# Altium integrated library Microchip Microcontroller 16-Bit PIC24F.IntLib: 262 symbols (part 7 of 15)
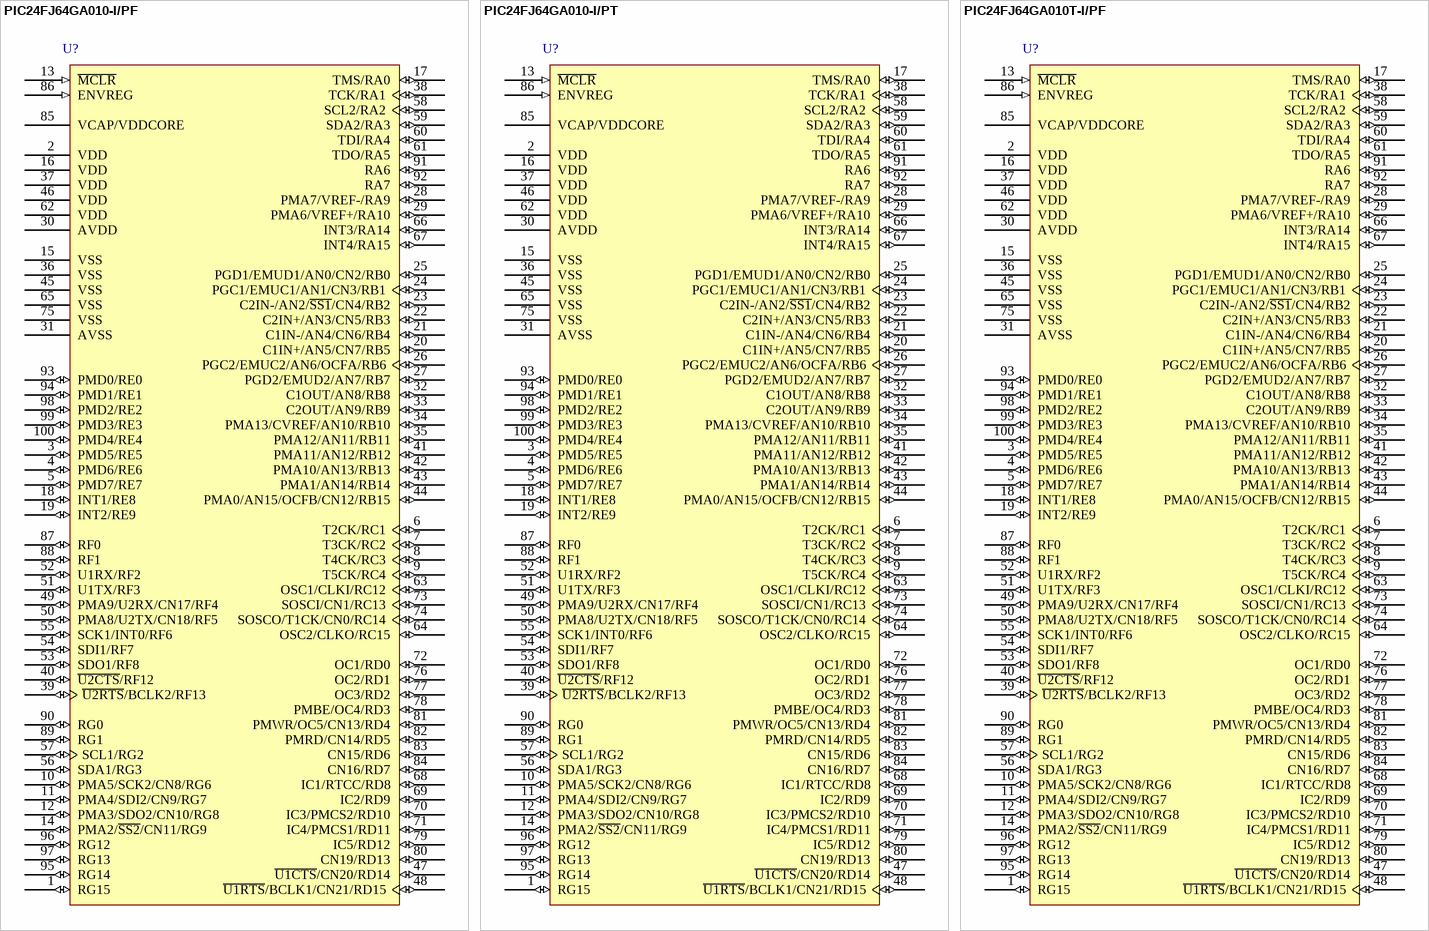
[diagram p67: symbols PIC24FJ64GA010-I/PF to PIC24FJ64GA010T-I/PF]

## PIC24FJ64GA010-I/PT
designator U?
General Purpose 16-Bit Flash Microcontroller, 64KB Flash, 8KB SRAM, 100-Pin TQFP (12x12x1 mm), Industrial Temperature; Published: 29-Jan-2009; LatestRevisionDate: 07-Oct-2010; LatestRevisionNote: Supplier links updated.; DatasheetVersion: revE, Oct-2009; PackageVersion: revBB, Aug-2009; PackageReference: TQFP-PT100; Publisher: Altium Limited; PackageDescription: 100-Lead Plastic Thin Quad Flatpack (PT) - 12x12x1mm Body, 2.00mm [TQFP]; Supplier 1: Digi-Key; Supplier Part Number 1: PIC24FJ64GA010-I/PT-ND; Supplier 2: Farnell; Supplier Part Number 2: 1146527; ComponentLink1Description: Datasheet; ComponentLink1URL: http://ww1.microchip.com/downloads/en/DeviceDoc/39747e.pdf; ComponentLink2Description: Packaging Specification; ComponentLink2URL: http://www.microchip.com/stellent/groups/techpub_sg/documents/packagingspec/en012702.pdf; ComponentLink3Description: Microchip.com Home; ComponentLink3URL: http://www.microchip.com/
footprint TQFP-PT100_N (Thin QFP, 100-Leads, Body 12x12mm, Pitch 0.4mm, IPC Medium Density)
footprint TQFP-PT100_L (Thin QFP, 100-Leads, Body 12x12mm, Pitch 0.4mm, IPC High Density)
footprint TQFP-PT100_M (Thin QFP, 100-Leads, Body 12x12mm, Pitch 0.4mm, IPC Low Density)
pins: 1 RG15 (io), 2 VDD (power), 3 PMD5/RE5 (io), 4 PMD6/RE6 (io), 5 PMD7/RE7 (io), 6 T2CK/RC1 (io), 7 T3CK/RC2 (io), 8 T4CK/RC3 (io), 9 T5CK/RC4 (io), 10 PMA5/SCK2/CN8/RG6 (io), 11 PMA4/SDI2/CN9/RG7 (io), 12 PMA3/SDO2/CN10/RG8 (io), 13 ~{MCLR} (in), 14 PMA2/~{SS2}/CN11/RG9 (io), 15 VSS (power), 16 VDD (power), 17 TMS/RA0 (io), 18 INT1/RE8 (io), 19 INT2/RE9 (io), 20 C1IN+/AN5/CN7/RB5 (io), 21 C1IN-/AN4/CN6/RB4 (io), 22 C2IN+/AN3/CN5/RB3 (io), 23 C2IN-/AN2/~{SS1}/CN4/RB2 (io), 24 PGC1/EMUC1/AN1/CN3/RB1 (io), 25 PGD1/EMUD1/AN0/CN2/RB0 (io), 26 PGC2/EMUC2/AN6/OCFA/RB6 (io), 27 PGD2/EMUD2/AN7/RB7 (io), 28 PMA7/VREF-/RA9 (io), 29 PMA6/VREF+/RA10 (io), 30 AVDD (power), 31 AVSS (power), 32 C1OUT/AN8/RB8 (io), 33 C2OUT/AN9/RB9 (io), 34 PMA13/CVREF/AN10/RB10 (io), 35 PMA12/AN11/RB11 (io), 36 VSS (power), 37 VDD (power), 38 TCK/RA1 (io), 39 ~{U2RTS}/BCLK2/RF13 (io), 40 ~{U2CTS}/RF12 (io), 41 PMA11/AN12/RB12 (io), 42 PMA10/AN13/RB13 (io), 43 PMA1/AN14/RB14 (io), 44 PMA0/AN15/OCFB/CN12/RB15 (io), 45 VSS (power), 46 VDD (power), 47 ~{U1CTS}/CN20/RD14 (io), 48 ~{U1RTS}/BCLK1/CN21/RD15 (io), 49 PMA9/U2RX/CN17/RF4 (io), 50 PMA8/U2TX/CN18/RF5 (io), 51 U1TX/RF3 (io), 52 U1RX/RF2 (io), 53 SDO1/RF8 (io), 54 SDI1/RF7 (io), 55 SCK1/INT0/RF6 (io), 56 SDA1/RG3 (io), 57 SCL1/RG2 (io), 58 SCL2/RA2 (io), 59 SDA2/RA3 (io), 60 TDI/RA4 (io), 61 TDO/RA5 (io), 62 VDD (power), 63 OSC1/CLKI/RC12 (io), 64 OSC2/CLKO/RC15 (io), 65 VSS (power), 66 INT3/RA14 (io), 67 INT4/RA15 (io), 68 IC1/RTCC/RD8 (io), 69 IC2/RD9 (io), 70 IC3/PMCS2/RD10 (io), 71 IC4/PMCS1/RD11 (io), 72 OC1/RD0 (io), 73 SOSCI/CN1/RC13 (io), 74 SOSCO/T1CK/CN0/RC14 (io), 75 VSS (power), 76 OC2/RD1 (io), 77 OC3/RD2 (io), 78 PMBE/OC4/RD3 (io), 79 IC5/RD12 (io), 80 CN19/RD13 (io), 81 PMWR/OC5/CN13/RD4 (io), 82 PMRD/CN14/RD5 (io), 83 CN15/RD6 (io), 84 CN16/RD7 (io), 85 VCAP/VDDCORE (power), 86 ENVREG (in), 87 RF0 (io), 88 RF1 (io), 89 RG1 (io), 90 RG0 (io), 91 RA6 (io), 92 RA7 (io), 93 PMD0/RE0 (io), 94 PMD1/RE1 (io), 95 RG14 (io), 96 RG12 (io), 97 RG13 (io), 98 PMD2/RE2 (io), 99 PMD3/RE3 (io), 100 PMD4/RE4 (io)

## PIC24FJ64GA010T-I/PF
designator U?
General Purpose 16-Bit Flash Microcontroller, 64KB Flash, 8KB SRAM, 100-Pin TQFP (14x14x1 mm), Industrial Temperature, Tape and Reel; Published: 29-Jan-2009; DatasheetVersion: revE, Oct-2009; PackageVersion: revBB, Aug-2009; PackageReference: TQFP-PF100; Publisher: Altium Limited; PackageDescription: 100-Lead Thin Plastic Quad Flat Pack (PF) - 14x14x1mm Body, 2.00mm [TQFP]; ComponentLink1Description: Datasheet; ComponentLink1URL: http://ww1.microchip.com/downloads/en/DeviceDoc/39747e.pdf; ComponentLink2Description: Packaging Specification; ComponentLink2URL: http://www.microchip.com/stellent/groups/techpub_sg/documents/packagingspec/en012702.pdf; ComponentLink3Description: Microchip.com Home; ComponentLink3URL: http://www.microchip.com/
footprint TQFP-PF100_N (Thin QFP, 100-Leads, Body 14x14mm, Pitch 0.5mm, IPC Medium Density)
footprint TQFP-PF100_L (Thin QFP, 100-Leads, Body 14x14mm, Pitch 0.5mm, IPC High Density)
footprint TQFP-PF100_M (Thin QFP, 100-Leads, Body 14x14mm, Pitch 0.5mm, IPC Low Density)
pins: 1 RG15 (io), 2 VDD (power), 3 PMD5/RE5 (io), 4 PMD6/RE6 (io), 5 PMD7/RE7 (io), 6 T2CK/RC1 (io), 7 T3CK/RC2 (io), 8 T4CK/RC3 (io), 9 T5CK/RC4 (io), 10 PMA5/SCK2/CN8/RG6 (io), 11 PMA4/SDI2/CN9/RG7 (io), 12 PMA3/SDO2/CN10/RG8 (io), 13 ~{MCLR} (in), 14 PMA2/~{SS2}/CN11/RG9 (io), 15 VSS (power), 16 VDD (power), 17 TMS/RA0 (io), 18 INT1/RE8 (io), 19 INT2/RE9 (io), 20 C1IN+/AN5/CN7/RB5 (io), 21 C1IN-/AN4/CN6/RB4 (io), 22 C2IN+/AN3/CN5/RB3 (io), 23 C2IN-/AN2/~{SS1}/CN4/RB2 (io), 24 PGC1/EMUC1/AN1/CN3/RB1 (io), 25 PGD1/EMUD1/AN0/CN2/RB0 (io), 26 PGC2/EMUC2/AN6/OCFA/RB6 (io), 27 PGD2/EMUD2/AN7/RB7 (io), 28 PMA7/VREF-/RA9 (io), 29 PMA6/VREF+/RA10 (io), 30 AVDD (power), 31 AVSS (power), 32 C1OUT/AN8/RB8 (io), 33 C2OUT/AN9/RB9 (io), 34 PMA13/CVREF/AN10/RB10 (io), 35 PMA12/AN11/RB11 (io), 36 VSS (power), 37 VDD (power), 38 TCK/RA1 (io), 39 ~{U2RTS}/BCLK2/RF13 (io), 40 ~{U2CTS}/RF12 (io), 41 PMA11/AN12/RB12 (io), 42 PMA10/AN13/RB13 (io), 43 PMA1/AN14/RB14 (io), 44 PMA0/AN15/OCFB/CN12/RB15 (io), 45 VSS (power), 46 VDD (power), 47 ~{U1CTS}/CN20/RD14 (io), 48 ~{U1RTS}/BCLK1/CN21/RD15 (io), 49 PMA9/U2RX/CN17/RF4 (io), 50 PMA8/U2TX/CN18/RF5 (io), 51 U1TX/RF3 (io), 52 U1RX/RF2 (io), 53 SDO1/RF8 (io), 54 SDI1/RF7 (io), 55 SCK1/INT0/RF6 (io), 56 SDA1/RG3 (io), 57 SCL1/RG2 (io), 58 SCL2/RA2 (io), 59 SDA2/RA3 (io), 60 TDI/RA4 (io), 61 TDO/RA5 (io), 62 VDD (power), 63 OSC1/CLKI/RC12 (io), 64 OSC2/CLKO/RC15 (io), 65 VSS (power), 66 INT3/RA14 (io), 67 INT4/RA15 (io), 68 IC1/RTCC/RD8 (io), 69 IC2/RD9 (io), 70 IC3/PMCS2/RD10 (io), 71 IC4/PMCS1/RD11 (io), 72 OC1/RD0 (io), 73 SOSCI/CN1/RC13 (io), 74 SOSCO/T1CK/CN0/RC14 (io), 75 VSS (power), 76 OC2/RD1 (io), 77 OC3/RD2 (io), 78 PMBE/OC4/RD3 (io), 79 IC5/RD12 (io), 80 CN19/RD13 (io), 81 PMWR/OC5/CN13/RD4 (io), 82 PMRD/CN14/RD5 (io), 83 CN15/RD6 (io), 84 CN16/RD7 (io), 85 VCAP/VDDCORE (power), 86 ENVREG (in), 87 RF0 (io), 88 RF1 (io), 89 RG1 (io), 90 RG0 (io), 91 RA6 (io), 92 RA7 (io), 93 PMD0/RE0 (io), 94 PMD1/RE1 (io), 95 RG14 (io), 96 RG12 (io), 97 RG13 (io), 98 PMD2/RE2 (io), 99 PMD3/RE3 (io), 100 PMD4/RE4 (io)

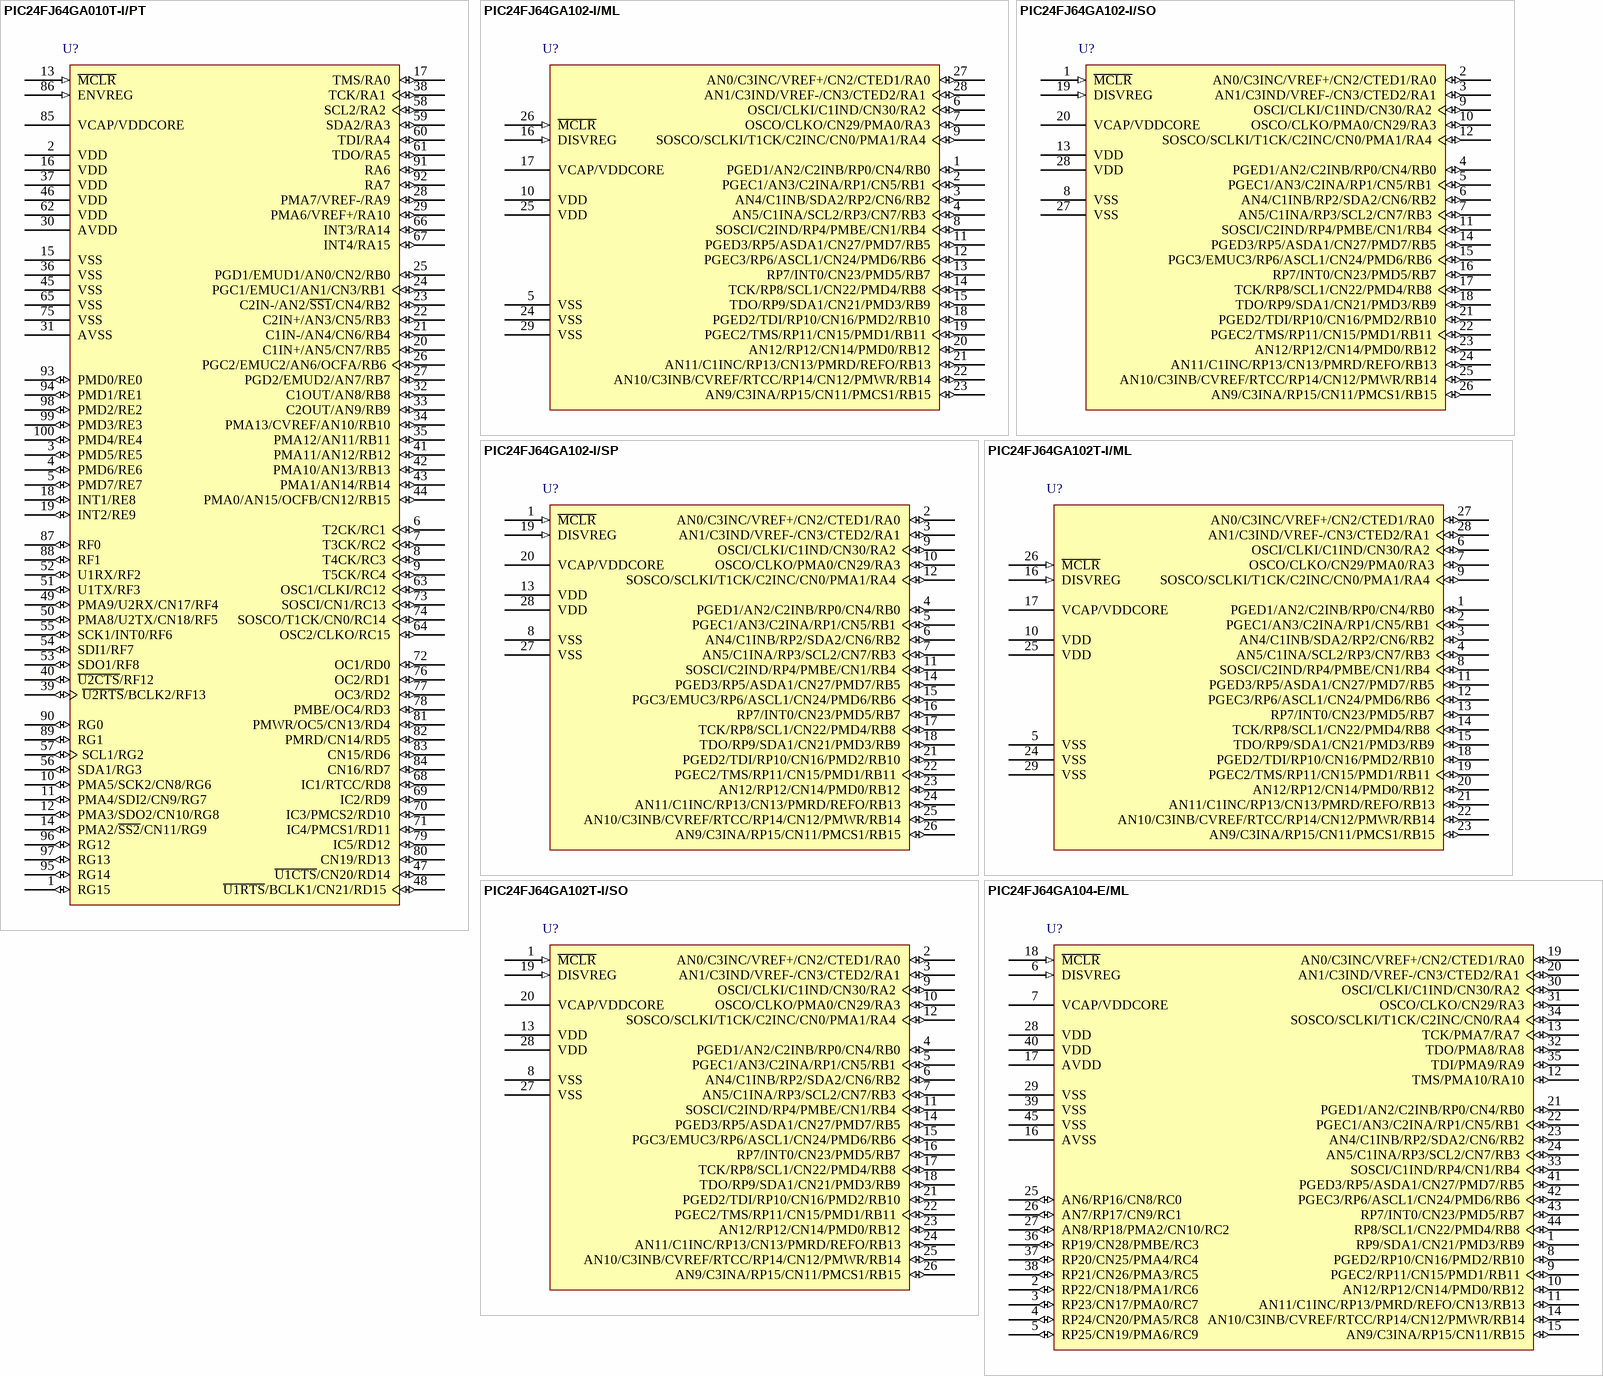
[diagram p20: symbols PIC24FJ64GA010T-I/PT to PIC24FJ64GA104-E/ML]

## PIC24FJ64GA010T-I/PT
designator U?
General Purpose 16-Bit Flash Microcontroller, 64KB Flash, 8KB SRAM, 100-Pin TQFP (12x12x1 mm), Industrial Temperature, Tape and Reel; Published: 29-Jan-2009; LatestRevisionDate: 07-Oct-2010; LatestRevisionNote: Supplier links updated.; DatasheetVersion: revE, Oct-2009; PackageVersion: revBB, Aug-2009; PackageReference: TQFP-PT100; Publisher: Altium Limited; PackageDescription: 100-Lead Plastic Thin Quad Flatpack (PT) - 12x12x1mm Body, 2.00mm [TQFP]; Supplier 1: Digi-Key; Supplier Part Number 1: PIC24FJ64GA010T-I/PT-ND; ComponentLink1Description: Datasheet; ComponentLink1URL: http://ww1.microchip.com/downloads/en/DeviceDoc/39747e.pdf; ComponentLink2Description: Packaging Specification; ComponentLink2URL: http://www.microchip.com/stellent/groups/techpub_sg/documents/packagingspec/en012702.pdf; ComponentLink3Description: Microchip.com Home; ComponentLink3URL: http://www.microchip.com/
footprint TQFP-PT100_N (Thin QFP, 100-Leads, Body 12x12mm, Pitch 0.4mm, IPC Medium Density)
footprint TQFP-PT100_L (Thin QFP, 100-Leads, Body 12x12mm, Pitch 0.4mm, IPC High Density)
footprint TQFP-PT100_M (Thin QFP, 100-Leads, Body 12x12mm, Pitch 0.4mm, IPC Low Density)
pins: 1 RG15 (io), 2 VDD (power), 3 PMD5/RE5 (io), 4 PMD6/RE6 (io), 5 PMD7/RE7 (io), 6 T2CK/RC1 (io), 7 T3CK/RC2 (io), 8 T4CK/RC3 (io), 9 T5CK/RC4 (io), 10 PMA5/SCK2/CN8/RG6 (io), 11 PMA4/SDI2/CN9/RG7 (io), 12 PMA3/SDO2/CN10/RG8 (io), 13 ~{MCLR} (in), 14 PMA2/~{SS2}/CN11/RG9 (io), 15 VSS (power), 16 VDD (power), 17 TMS/RA0 (io), 18 INT1/RE8 (io), 19 INT2/RE9 (io), 20 C1IN+/AN5/CN7/RB5 (io), 21 C1IN-/AN4/CN6/RB4 (io), 22 C2IN+/AN3/CN5/RB3 (io), 23 C2IN-/AN2/~{SS1}/CN4/RB2 (io), 24 PGC1/EMUC1/AN1/CN3/RB1 (io), 25 PGD1/EMUD1/AN0/CN2/RB0 (io), 26 PGC2/EMUC2/AN6/OCFA/RB6 (io), 27 PGD2/EMUD2/AN7/RB7 (io), 28 PMA7/VREF-/RA9 (io), 29 PMA6/VREF+/RA10 (io), 30 AVDD (power), 31 AVSS (power), 32 C1OUT/AN8/RB8 (io), 33 C2OUT/AN9/RB9 (io), 34 PMA13/CVREF/AN10/RB10 (io), 35 PMA12/AN11/RB11 (io), 36 VSS (power), 37 VDD (power), 38 TCK/RA1 (io), 39 ~{U2RTS}/BCLK2/RF13 (io), 40 ~{U2CTS}/RF12 (io), 41 PMA11/AN12/RB12 (io), 42 PMA10/AN13/RB13 (io), 43 PMA1/AN14/RB14 (io), 44 PMA0/AN15/OCFB/CN12/RB15 (io), 45 VSS (power), 46 VDD (power), 47 ~{U1CTS}/CN20/RD14 (io), 48 ~{U1RTS}/BCLK1/CN21/RD15 (io), 49 PMA9/U2RX/CN17/RF4 (io), 50 PMA8/U2TX/CN18/RF5 (io), 51 U1TX/RF3 (io), 52 U1RX/RF2 (io), 53 SDO1/RF8 (io), 54 SDI1/RF7 (io), 55 SCK1/INT0/RF6 (io), 56 SDA1/RG3 (io), 57 SCL1/RG2 (io), 58 SCL2/RA2 (io), 59 SDA2/RA3 (io), 60 TDI/RA4 (io), 61 TDO/RA5 (io), 62 VDD (power), 63 OSC1/CLKI/RC12 (io), 64 OSC2/CLKO/RC15 (io), 65 VSS (power), 66 INT3/RA14 (io), 67 INT4/RA15 (io), 68 IC1/RTCC/RD8 (io), 69 IC2/RD9 (io), 70 IC3/PMCS2/RD10 (io), 71 IC4/PMCS1/RD11 (io), 72 OC1/RD0 (io), 73 SOSCI/CN1/RC13 (io), 74 SOSCO/T1CK/CN0/RC14 (io), 75 VSS (power), 76 OC2/RD1 (io), 77 OC3/RD2 (io), 78 PMBE/OC4/RD3 (io), 79 IC5/RD12 (io), 80 CN19/RD13 (io), 81 PMWR/OC5/CN13/RD4 (io), 82 PMRD/CN14/RD5 (io), 83 CN15/RD6 (io), 84 CN16/RD7 (io), 85 VCAP/VDDCORE (power), 86 ENVREG (in), 87 RF0 (io), 88 RF1 (io), 89 RG1 (io), 90 RG0 (io), 91 RA6 (io), 92 RA7 (io), 93 PMD0/RE0 (io), 94 PMD1/RE1 (io), 95 RG14 (io), 96 RG12 (io), 97 RG13 (io), 98 PMD2/RE2 (io), 99 PMD3/RE3 (io), 100 PMD4/RE4 (io)

## PIC24FJ64GA102-I/ML
designator U?
General purpose 16-bit Flash Microcontroller with nanoWatt XLP, 64KB Flash, 8KB SRAM, 28-Pin QFN, Industrial Temperature; Published: 2-Dec-2009; LatestRevisionDate: 07-Oct-2010; LatestRevisionNote: Updated to datasheet revision C, Aug-2010. Supplier links updated. Sch. pin 13 & 23 names updated.; DatasheetVersion: revC, Aug-2010; PackageVersion: revBB, Aug-2009; PackageReference: QFN-ML28; Publisher: Altium Limited; PackageDescription: 28-Lead Plastic Quad Flat, No Lead Package (ML) - 6x6 mm Body [QFN] with 0.55 mm Contact Length; Supplier 1: Digi-Key; Supplier Part Number 1: PIC24FJ64GA102-I/ML-ND; Supplier 2: Farnell; Supplier Part Number 2: 1778477; Code_JEDEC: MO-220; Code_IPC: QFN65P600X600-28V; ComponentLink1Description: Datasheet; ComponentLink1URL: http://ww1.microchip.com/downloads/en/DeviceDoc/39951C.pdf; ComponentLink2Description: Packaging Specification; ComponentLink2URL: http://www.microchip.com/stellent/groups/techpub_sg/documents/packagingspec/en012702.pdf; ComponentLink3Description: Microchip.com Home; ComponentLink3URL: http://www.microchip.com/
footprint QFN-ML28_N (QFN, 28-Leads, Body 6x6 mm, Pitch 0.65mm, IPC Medium Density)
footprint QFN-ML28_L (QFN, 28-Leads, Body 6x6 mm, Pitch 0.65mm, IPC High Density)
footprint QFN-ML28_M (QFN, 28-Leads, Body 6x6 mm, Pitch 0.65mm, IPC Low Density)
pins: 1 PGED1/AN2/C2INB/RP0/CN4/RB0 (io), 2 PGEC1/AN3/C2INA/RP1/CN5/RB1 (io), 3 AN4/C1INB/SDA2/RP2/CN6/RB2 (io), 4 AN5/C1INA/SCL2/RP3/CN7/RB3 (io), 5 VSS (power), 6 OSCI/CLKI/C1IND/CN30/RA2 (io), 7 OSCO/CLKO/CN29/PMA0/RA3 (io), 8 SOSCI/C2IND/RP4/PMBE/CN1/RB4 (io), 9 SOSCO/SCLKI/T1CK/C2INC/CN0/PMA1/RA4 (io), 10 VDD (power), 11 PGED3/RP5/ASDA1/CN27/PMD7/RB5 (io), 12 PGEC3/RP6/ASCL1/CN24/PMD6/RB6 (io), 13 RP7/INT0/CN23/PMD5/RB7 (io), 14 TCK/RP8/SCL1/CN22/PMD4/RB8 (io), 15 TDO/RP9/SDA1/CN21/PMD3/RB9 (io), 16 DISVREG (in), 17 VCAP/VDDCORE (power), 18 PGED2/TDI/RP10/CN16/PMD2/RB10 (io), 19 PGEC2/TMS/RP11/CN15/PMD1/RB11 (io), 20 AN12/RP12/CN14/PMD0/RB12 (io), 21 AN11/C1INC/RP13/CN13/PMRD/REFO/RB13 (io), 22 AN10/C3INB/CVREF/RTCC/RP14/CN12/PMWR/RB14 (io), 23 AN9/C3INA/RP15/CN11/PMCS1/RB15 (io), 24 VSS (power), 25 VDD (power), 26 ~{MCLR} (in), 27 AN0/C3INC/VREF+/CN2/CTED1/RA0 (io), 28 AN1/C3IND/VREF-/CN3/CTED2/RA1 (io), 29 VSS (power)

## PIC24FJ64GA102-I/SO
designator U?
General purpose 16-bit Flash Microcontroller with nanoWatt XLP, 64KB Flash, 8KB SRAM, 28-Pin SOIC, Industrial Temperature; Published: 2-Dec-2009; LatestRevisionDate: 07-Oct-2010; LatestRevisionNote: Updated to datasheet revision C, Aug-2010. Supplier links updated. Sch. pin 7 name corrected.; DatasheetVersion: revC, Aug-2010; PackageVersion: revBB, Aug-2009; PackageReference: SOIC-SO28; Publisher: Altium Limited; PackageDescription: 28-Lead Plastic Small Outline (SO) - Wide 7.50mm Body [SOIC]; Supplier 1: Digi-Key; Supplier Part Number 1: PIC24FJ64GA102-I/SO-ND; Supplier 2: Farnell; Supplier Part Number 2: 1778478; Code_JEDEC: MS-013; ComponentLink1Description: Datasheet; ComponentLink1URL: http://ww1.microchip.com/downloads/en/DeviceDoc/39951C.pdf; ComponentLink2Description: Packaging Specification; ComponentLink2URL: http://www.microchip.com/stellent/groups/techpub_sg/documents/packagingspec/en012702.pdf; ComponentLink3Description: Microchip.com Home; ComponentLink3URL: http://www.microchip.com/
footprint SOIC-SO28_N (SOIC, 28-Leads, Body 17.9x7.5mm, Pitch 1.27mm, IPC Medium Density)
footprint SOIC-SO28_L (SOIC, 28-Leads, Body 17.9x7.5mm, Pitch 1.27mm, IPC High Density)
footprint SOIC-SO28_M (SOIC, 28-Leads, Body 17.9x7.5mm, Pitch 1.27mm, IPC Low Density)
pins: 1 ~{MCLR} (in), 2 AN0/C3INC/VREF+/CN2/CTED1/RA0 (io), 3 AN1/C3IND/VREF-/CN3/CTED2/RA1 (io), 4 PGED1/AN2/C2INB/RP0/CN4/RB0 (io), 5 PGEC1/AN3/C2INA/RP1/CN5/RB1 (io), 6 AN4/C1INB/RP2/SDA2/CN6/RB2 (io), 7 AN5/C1INA/RP3/SCL2/CN7/RB3 (io), 8 VSS (power), 9 OSCI/CLKI/C1IND/CN30/RA2 (io), 10 OSCO/CLKO/PMA0/CN29/RA3 (io), 11 SOSCI/C2IND/RP4/PMBE/CN1/RB4 (io), 12 SOSCO/SCLKI/T1CK/C2INC/CN0/PMA1/RA4 (io), 13 VDD (power), 14 PGED3/RP5/ASDA1/CN27/PMD7/RB5 (io), 15 PGC3/EMUC3/RP6/ASCL1/CN24/PMD6/RB6 (io), 16 RP7/INT0/CN23/PMD5/RB7 (io), 17 TCK/RP8/SCL1/CN22/PMD4/RB8 (io), 18 TDO/RP9/SDA1/CN21/PMD3/RB9 (io), 19 DISVREG (in), 20 VCAP/VDDCORE (power), 21 PGED2/TDI/RP10/CN16/PMD2/RB10 (io), 22 PGEC2/TMS/RP11/CN15/PMD1/RB11 (io), 23 AN12/RP12/CN14/PMD0/RB12 (io), 24 AN11/C1INC/RP13/CN13/PMRD/REFO/RB13 (io), 25 AN10/C3INB/CVREF/RTCC/RP14/CN12/PMWR/RB14 (io), 26 AN9/C3INA/RP15/CN11/PMCS1/RB15 (io), 27 VSS (power), 28 VDD (power)

## PIC24FJ64GA102-I/SP
designator U?
General purpose 16-bit Flash Microcontroller with nanoWatt XLP, 64KB Flash, 8KB SRAM, 28-Pin SPDIP, Industrial Temperature; Published: 2-Dec-2009; LatestRevisionDate: 07-Oct-2010; LatestRevisionNote: Updated to datasheet revision C, Aug-2010. Supplier links updated. Sch. pin 7 name corrected.; DatasheetVersion: revC, Aug-2010; PackageVersion: revBB, Aug-2009; PackageReference: SPDIP300-SP28; Publisher: Altium Limited; PackageDescription: 28-Lead Skinny Plastic Dual In-Line (SP) - 300 mil Body [SPDIP]; Supplier 1: Digi-Key; Supplier Part Number 1: PIC24FJ64GA102-I/SP-ND; Supplier 2: Farnell; Supplier Part Number 2: 1778479; ComponentLink1Description: Datasheet; ComponentLink1URL: http://ww1.microchip.com/downloads/en/DeviceDoc/39951C.pdf; ComponentLink2Description: Packaging Specification; ComponentLink2URL: http://www.microchip.com/stellent/groups/techpub_sg/documents/packagingspec/en012702.pdf; ComponentLink3Description: Microchip.com Home; ComponentLink3URL: http://www.microchip.com/
footprint SPDIP300-SP28 (DIP, 28-Leads, Row Spacing 7.62mm, Pitch 2.54mm, Body 34.9x6.8mm)
pins: 1 ~{MCLR} (in), 2 AN0/C3INC/VREF+/CN2/CTED1/RA0 (io), 3 AN1/C3IND/VREF-/CN3/CTED2/RA1 (io), 4 PGED1/AN2/C2INB/RP0/CN4/RB0 (io), 5 PGEC1/AN3/C2INA/RP1/CN5/RB1 (io), 6 AN4/C1INB/RP2/SDA2/CN6/RB2 (io), 7 AN5/C1INA/RP3/SCL2/CN7/RB3 (io), 8 VSS (power), 9 OSCI/CLKI/C1IND/CN30/RA2 (io), 10 OSCO/CLKO/PMA0/CN29/RA3 (io), 11 SOSCI/C2IND/RP4/PMBE/CN1/RB4 (io), 12 SOSCO/SCLKI/T1CK/C2INC/CN0/PMA1/RA4 (io), 13 VDD (power), 14 PGED3/RP5/ASDA1/CN27/PMD7/RB5 (io), 15 PGC3/EMUC3/RP6/ASCL1/CN24/PMD6/RB6 (io), 16 RP7/INT0/CN23/PMD5/RB7 (io), 17 TCK/RP8/SCL1/CN22/PMD4/RB8 (io), 18 TDO/RP9/SDA1/CN21/PMD3/RB9 (io), 19 DISVREG (in), 20 VCAP/VDDCORE (power), 21 PGED2/TDI/RP10/CN16/PMD2/RB10 (io), 22 PGEC2/TMS/RP11/CN15/PMD1/RB11 (io), 23 AN12/RP12/CN14/PMD0/RB12 (io), 24 AN11/C1INC/RP13/CN13/PMRD/REFO/RB13 (io), 25 AN10/C3INB/CVREF/RTCC/RP14/CN12/PMWR/RB14 (io), 26 AN9/C3INA/RP15/CN11/PMCS1/RB15 (io), 27 VSS (power), 28 VDD (power)

## PIC24FJ64GA102T-I/ML
designator U?
General purpose 16-bit Flash Microcontroller with nanoWatt XLP, 64KB Flash, 8KB SRAM, 28-Pin QFN, Industrial Temperature, Tape and Reel; Published: 2-Dec-2009; LatestRevisionDate: 07-Oct-2010; LatestRevisionNote: Updated to datasheet revision C, Aug-2010. Supplier links updated. Sch. pin 13 & 23 names updated.; DatasheetVersion: revC, Aug-2010; PackageVersion: revBB, Aug-2009; PackageReference: QFN-ML28; Publisher: Altium Limited; PackageDescription: 28-Lead Plastic Quad Flat, No Lead Package (ML) - 6x6 mm Body [QFN] with 0.55 mm Contact Length; Supplier 1: Digi-Key; Supplier Part Number 1: PIC24FJ64GA102T-I/ML-ND; Code_JEDEC: MO-220; Code_IPC: QFN65P600X600-28V; ComponentLink1Description: Datasheet; ComponentLink1URL: http://ww1.microchip.com/downloads/en/DeviceDoc/39951C.pdf; ComponentLink2Description: Packaging Specification; ComponentLink2URL: http://www.microchip.com/stellent/groups/techpub_sg/documents/packagingspec/en012702.pdf; ComponentLink3Description: Microchip.com Home; ComponentLink3URL: http://www.microchip.com/
footprint QFN-ML28_N (QFN, 28-Leads, Body 6x6 mm, Pitch 0.65mm, IPC Medium Density)
footprint QFN-ML28_L (QFN, 28-Leads, Body 6x6 mm, Pitch 0.65mm, IPC High Density)
footprint QFN-ML28_M (QFN, 28-Leads, Body 6x6 mm, Pitch 0.65mm, IPC Low Density)
pins: 1 PGED1/AN2/C2INB/RP0/CN4/RB0 (io), 2 PGEC1/AN3/C2INA/RP1/CN5/RB1 (io), 3 AN4/C1INB/SDA2/RP2/CN6/RB2 (io), 4 AN5/C1INA/SCL2/RP3/CN7/RB3 (io), 5 VSS (power), 6 OSCI/CLKI/C1IND/CN30/RA2 (io), 7 OSCO/CLKO/CN29/PMA0/RA3 (io), 8 SOSCI/C2IND/RP4/PMBE/CN1/RB4 (io), 9 SOSCO/SCLKI/T1CK/C2INC/CN0/PMA1/RA4 (io), 10 VDD (power), 11 PGED3/RP5/ASDA1/CN27/PMD7/RB5 (io), 12 PGEC3/RP6/ASCL1/CN24/PMD6/RB6 (io), 13 RP7/INT0/CN23/PMD5/RB7 (io), 14 TCK/RP8/SCL1/CN22/PMD4/RB8 (io), 15 TDO/RP9/SDA1/CN21/PMD3/RB9 (io), 16 DISVREG (in), 17 VCAP/VDDCORE (power), 18 PGED2/TDI/RP10/CN16/PMD2/RB10 (io), 19 PGEC2/TMS/RP11/CN15/PMD1/RB11 (io), 20 AN12/RP12/CN14/PMD0/RB12 (io), 21 AN11/C1INC/RP13/CN13/PMRD/REFO/RB13 (io), 22 AN10/C3INB/CVREF/RTCC/RP14/CN12/PMWR/RB14 (io), 23 AN9/C3INA/RP15/CN11/PMCS1/RB15 (io), 24 VSS (power), 25 VDD (power), 26 ~{MCLR} (in), 27 AN0/C3INC/VREF+/CN2/CTED1/RA0 (io), 28 AN1/C3IND/VREF-/CN3/CTED2/RA1 (io), 29 VSS (power)

## PIC24FJ64GA102T-I/SO
designator U?
General purpose 16-bit Flash Microcontroller with nanoWatt XLP, 64KB Flash, 8KB SRAM, 28-Pin SOIC, Industrial Temperature, Tape and Reel; Published: 2-Dec-2009; LatestRevisionDate: 07-Oct-2010; LatestRevisionNote: Updated to datasheet revision C, Aug-2010. Supplier links updated. Sch. pin 7 name corrected.; DatasheetVersion: revC, Aug-2010; PackageVersion: revBB, Aug-2009; PackageReference: SOIC-SO28; Publisher: Altium Limited; PackageDescription: 28-Lead Plastic Small Outline (SO) - Wide 7.50mm Body [SOIC]; Supplier 1: Digi-Key; Supplier Part Number 1: PIC24FJ64GA102T-I/SO-ND; Code_JEDEC: MS-013; ComponentLink1Description: Datasheet; ComponentLink1URL: http://ww1.microchip.com/downloads/en/DeviceDoc/39951C.pdf; ComponentLink2Description: Packaging Specification; ComponentLink2URL: http://www.microchip.com/stellent/groups/techpub_sg/documents/packagingspec/en012702.pdf; ComponentLink3Description: Microchip.com Home; ComponentLink3URL: http://www.microchip.com/
footprint SOIC-SO28_N (SOIC, 28-Leads, Body 17.9x7.5mm, Pitch 1.27mm, IPC Medium Density)
footprint SOIC-SO28_L (SOIC, 28-Leads, Body 17.9x7.5mm, Pitch 1.27mm, IPC High Density)
footprint SOIC-SO28_M (SOIC, 28-Leads, Body 17.9x7.5mm, Pitch 1.27mm, IPC Low Density)
pins: 1 ~{MCLR} (in), 2 AN0/C3INC/VREF+/CN2/CTED1/RA0 (io), 3 AN1/C3IND/VREF-/CN3/CTED2/RA1 (io), 4 PGED1/AN2/C2INB/RP0/CN4/RB0 (io), 5 PGEC1/AN3/C2INA/RP1/CN5/RB1 (io), 6 AN4/C1INB/RP2/SDA2/CN6/RB2 (io), 7 AN5/C1INA/RP3/SCL2/CN7/RB3 (io), 8 VSS (power), 9 OSCI/CLKI/C1IND/CN30/RA2 (io), 10 OSCO/CLKO/PMA0/CN29/RA3 (io), 11 SOSCI/C2IND/RP4/PMBE/CN1/RB4 (io), 12 SOSCO/SCLKI/T1CK/C2INC/CN0/PMA1/RA4 (io), 13 VDD (power), 14 PGED3/RP5/ASDA1/CN27/PMD7/RB5 (io), 15 PGC3/EMUC3/RP6/ASCL1/CN24/PMD6/RB6 (io), 16 RP7/INT0/CN23/PMD5/RB7 (io), 17 TCK/RP8/SCL1/CN22/PMD4/RB8 (io), 18 TDO/RP9/SDA1/CN21/PMD3/RB9 (io), 19 DISVREG (in), 20 VCAP/VDDCORE (power), 21 PGED2/TDI/RP10/CN16/PMD2/RB10 (io), 22 PGEC2/TMS/RP11/CN15/PMD1/RB11 (io), 23 AN12/RP12/CN14/PMD0/RB12 (io), 24 AN11/C1INC/RP13/CN13/PMRD/REFO/RB13 (io), 25 AN10/C3INB/CVREF/RTCC/RP14/CN12/PMWR/RB14 (io), 26 AN9/C3INA/RP15/CN11/PMCS1/RB15 (io), 27 VSS (power), 28 VDD (power)

## PIC24FJ64GA104-E/ML
designator U?
General purpose 16-bit Flash Microcontroller with nanoWatt XLP, 64KB Flash, 8KB SRAM, 44-Pin QFN, Extended Temperature; Published: 2-Dec-2009; LatestRevisionDate: 07-Oct-2010; LatestRevisionNote: Updated to datasheet revision C, Aug-2010.; DatasheetVersion: revC, Aug-2010; PackageVersion: revBB, Aug-2009; PackageReference: QFN-ML44; Publisher: Altium Limited; PackageDescription: 44-Lead Plastic Quad Flat, No Lead Package (ML) - 8x8 mm Body [QFN]; Code_JEDEC: MO-220; Code_IPC: QFN65P800X800-44V2; ComponentLink1Description: Datasheet; ComponentLink1URL: http://ww1.microchip.com/downloads/en/DeviceDoc/39951C.pdf; ComponentLink2Description: Packaging Specification; ComponentLink2URL: http://www.microchip.com/stellent/groups/techpub_sg/documents/packagingspec/en012702.pdf; ComponentLink3Description: Microchip.com Home; ComponentLink3URL: http://www.microchip.com/
footprint QFN-ML44_N (QFN, 44-Leads, Body 8x8 mm, Pitch 0.65mm, IPC Medium Density)
footprint QFN-ML44_L (QFN, 44-Leads, Body 8x8 mm, Pitch 0.65mm, IPC High Density)
footprint QFN-ML44_M (QFN, 44-Leads, Body 8x8 mm, Pitch 0.65mm, IPC Low Density)
pins: 1 RP9/SDA1/CN21/PMD3/RB9 (io), 2 RP22/CN18/PMA1/RC6 (io), 3 RP23/CN17/PMA0/RC7 (io), 4 RP24/CN20/PMA5/RC8 (io), 5 RP25/CN19/PMA6/RC9 (io), 6 DISVREG (in), 7 VCAP/VDDCORE (power), 8 PGED2/RP10/CN16/PMD2/RB10 (io), 9 PGEC2/RP11/CN15/PMD1/RB11 (io), 10 AN12/RP12/CN14/PMD0/RB12 (io), 11 AN11/C1INC/RP13/PMRD/REFO/CN13/RB13 (io), 12 TMS/PMA10/RA10 (io), 13 TCK/PMA7/RA7 (io), 14 AN10/C3INB/CVREF/RTCC/RP14/CN12/PMWR/RB14 (io), 15 AN9/C3INA/RP15/CN11/RB15 (io), 16 AVSS (power), 17 AVDD (power), 18 ~{MCLR} (in), 19 AN0/C3INC/VREF+/CN2/CTED1/RA0 (io), 20 AN1/C3IND/VREF-/CN3/CTED2/RA1 (io), 21 PGED1/AN2/C2INB/RP0/CN4/RB0 (io), 22 PGEC1/AN3/C2INA/RP1/CN5/RB1 (io), 23 AN4/C1INB/RP2/SDA2/CN6/RB2 (io), 24 AN5/C1INA/RP3/SCL2/CN7/RB3 (io), 25 AN6/RP16/CN8/RC0 (io), 26 AN7/RP17/CN9/RC1 (io), 27 AN8/RP18/PMA2/CN10/RC2 (io), 28 VDD (power), 29 VSS (power), 30 OSCI/CLKI/C1IND/CN30/RA2 (io), 31 OSCO/CLKO/CN29/RA3 (io), 32 TDO/PMA8/RA8 (io), 33 SOSCI/C1IND/RP4/CN1/RB4 (io), 34 SOSCO/SCLKI/T1CK/C2INC/CN0/RA4 (io), 35 TDI/PMA9/RA9 (io), 36 RP19/CN28/PMBE/RC3 (io), 37 RP20/CN25/PMA4/RC4 (io), 38 RP21/CN26/PMA3/RC5 (io), 39 VSS (power), 40 VDD (power), 41 PGED3/RP5/ASDA1/CN27/PMD7/RB5 (io), 42 PGEC3/RP6/ASCL1/CN24/PMD6/RB6 (io), 43 RP7/INT0/CN23/PMD5/RB7 (io), 44 RP8/SCL1/CN22/PMD4/RB8 (io), 45 VSS (power)

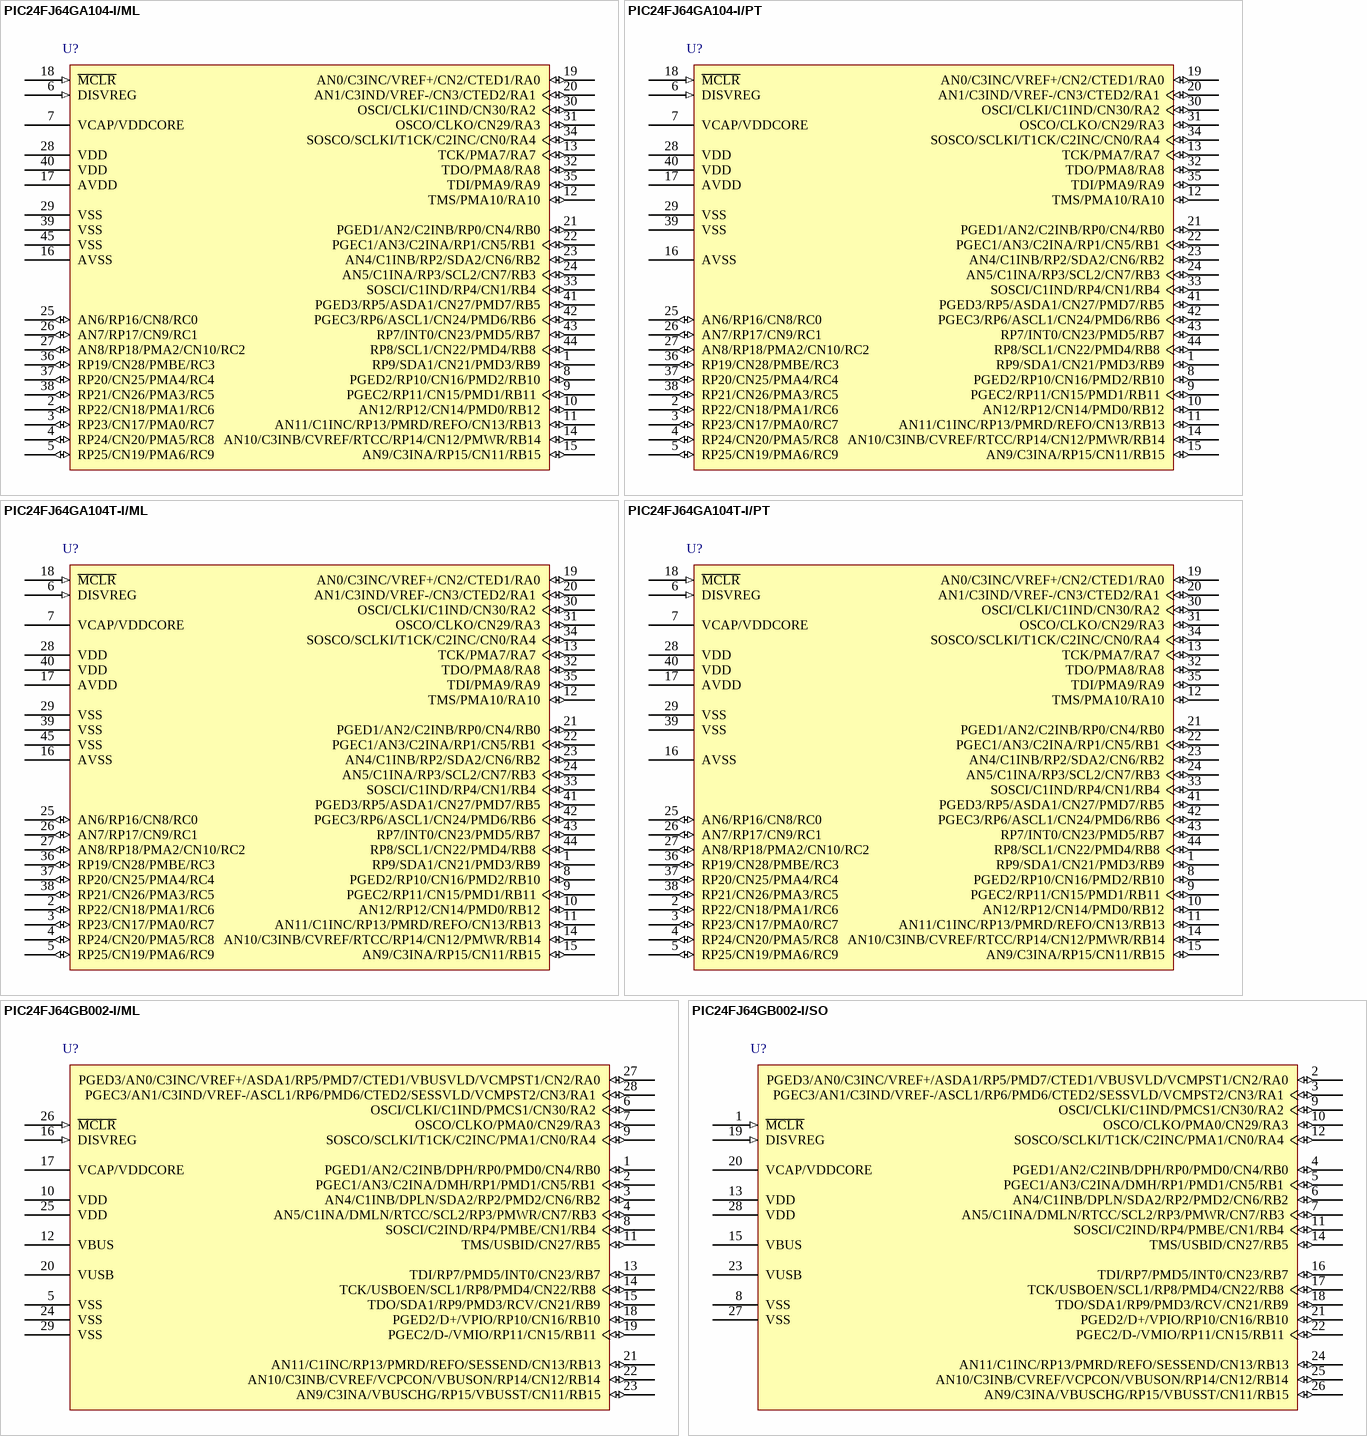
[diagram p21: symbols PIC24FJ64GA104-I/ML to PIC24FJ64GB002-I/SO]

## PIC24FJ64GA104-I/ML
designator U?
General purpose 16-bit Flash Microcontroller with nanoWatt XLP, 64KB Flash, 8KB SRAM, 44-Pin QFN, Industrial Temperature; Published: 2-Dec-2009; LatestRevisionDate: 07-Oct-2010; LatestRevisionNote: Updated to datasheet revision C, Aug-2010. Supplier links updated.; DatasheetVersion: revC, Aug-2010; PackageVersion: revBB, Aug-2009; PackageReference: QFN-ML44; Publisher: Altium Limited; PackageDescription: 44-Lead Plastic Quad Flat, No Lead Package (ML) - 8x8 mm Body [QFN]; Supplier 1: Digi-Key; Supplier Part Number 1: PIC24FJ64GA104-I/ML-ND; Supplier 2: Farnell; Supplier Part Number 2: 1778480; Code_JEDEC: MO-220; Code_IPC: QFN65P800X800-44V2; ComponentLink1Description: Datasheet; ComponentLink1URL: http://ww1.microchip.com/downloads/en/DeviceDoc/39951C.pdf; ComponentLink2Description: Packaging Specification; ComponentLink2URL: http://www.microchip.com/stellent/groups/techpub_sg/documents/packagingspec/en012702.pdf; ComponentLink3Description: Microchip.com Home; ComponentLink3URL: http://www.microchip.com/
footprint QFN-ML44_N (QFN, 44-Leads, Body 8x8 mm, Pitch 0.65mm, IPC Medium Density)
footprint QFN-ML44_L (QFN, 44-Leads, Body 8x8 mm, Pitch 0.65mm, IPC High Density)
footprint QFN-ML44_M (QFN, 44-Leads, Body 8x8 mm, Pitch 0.65mm, IPC Low Density)
pins: 1 RP9/SDA1/CN21/PMD3/RB9 (io), 2 RP22/CN18/PMA1/RC6 (io), 3 RP23/CN17/PMA0/RC7 (io), 4 RP24/CN20/PMA5/RC8 (io), 5 RP25/CN19/PMA6/RC9 (io), 6 DISVREG (in), 7 VCAP/VDDCORE (power), 8 PGED2/RP10/CN16/PMD2/RB10 (io), 9 PGEC2/RP11/CN15/PMD1/RB11 (io), 10 AN12/RP12/CN14/PMD0/RB12 (io), 11 AN11/C1INC/RP13/PMRD/REFO/CN13/RB13 (io), 12 TMS/PMA10/RA10 (io), 13 TCK/PMA7/RA7 (io), 14 AN10/C3INB/CVREF/RTCC/RP14/CN12/PMWR/RB14 (io), 15 AN9/C3INA/RP15/CN11/RB15 (io), 16 AVSS (power), 17 AVDD (power), 18 ~{MCLR} (in), 19 AN0/C3INC/VREF+/CN2/CTED1/RA0 (io), 20 AN1/C3IND/VREF-/CN3/CTED2/RA1 (io), 21 PGED1/AN2/C2INB/RP0/CN4/RB0 (io), 22 PGEC1/AN3/C2INA/RP1/CN5/RB1 (io), 23 AN4/C1INB/RP2/SDA2/CN6/RB2 (io), 24 AN5/C1INA/RP3/SCL2/CN7/RB3 (io), 25 AN6/RP16/CN8/RC0 (io), 26 AN7/RP17/CN9/RC1 (io), 27 AN8/RP18/PMA2/CN10/RC2 (io), 28 VDD (power), 29 VSS (power), 30 OSCI/CLKI/C1IND/CN30/RA2 (io), 31 OSCO/CLKO/CN29/RA3 (io), 32 TDO/PMA8/RA8 (io), 33 SOSCI/C1IND/RP4/CN1/RB4 (io), 34 SOSCO/SCLKI/T1CK/C2INC/CN0/RA4 (io), 35 TDI/PMA9/RA9 (io), 36 RP19/CN28/PMBE/RC3 (io), 37 RP20/CN25/PMA4/RC4 (io), 38 RP21/CN26/PMA3/RC5 (io), 39 VSS (power), 40 VDD (power), 41 PGED3/RP5/ASDA1/CN27/PMD7/RB5 (io), 42 PGEC3/RP6/ASCL1/CN24/PMD6/RB6 (io), 43 RP7/INT0/CN23/PMD5/RB7 (io), 44 RP8/SCL1/CN22/PMD4/RB8 (io), 45 VSS (power)

## PIC24FJ64GA104-I/PT
designator U?
General purpose 16-bit Flash Microcontroller with nanoWatt XLP, 64KB Flash, 8KB SRAM, 44-Pin TQFP, Industrial Temperature; Published: 2-Dec-2009; LatestRevisionDate: 07-Oct-2010; LatestRevisionNote: Updated to datasheet revision C, Aug-2010. Supplier links updated. Sch. layout updated.; DatasheetVersion: revC, Aug-2010; PackageVersion: revBB, Aug-2009; PackageReference: TQFP-PT44; Publisher: Altium Limited; PackageDescription: 44-Lead Plastic Thin Quad Flatpack (PT) - 10x10x1mm Body, 2.00mm [TQFP]; Supplier 1: Digi-Key; Supplier Part Number 1: PIC24FJ64GA104-I/PT-ND; Supplier 2: Farnell; Supplier Part Number 2: 1778482; Code_JEDEC: MS-026; ComponentLink1Description: Datasheet; ComponentLink1URL: http://ww1.microchip.com/downloads/en/DeviceDoc/39951C.pdf; ComponentLink2Description: Packaging Specification; ComponentLink2URL: http://www.microchip.com/stellent/groups/techpub_sg/documents/packagingspec/en012702.pdf; ComponentLink3Description: Microchip.com Home; ComponentLink3URL: http://www.microchip.com/
footprint TQFP-PT44_N (Thin QFP, 44-Leads, Body 10x10mm, Pitch 0.8mm, IPC Medium Density)
footprint TQFP-PT44_L (Thin QFP, 44-Leads, Body 10x10mm, Pitch 0.8mm, IPC High Density)
footprint TQFP-PT44_M (Thin QFP, 44-Leads, Body 10x10mm, Pitch 0.8mm, IPC Low Density)
pins: 1 RP9/SDA1/CN21/PMD3/RB9 (io), 2 RP22/CN18/PMA1/RC6 (io), 3 RP23/CN17/PMA0/RC7 (io), 4 RP24/CN20/PMA5/RC8 (io), 5 RP25/CN19/PMA6/RC9 (io), 6 DISVREG (in), 7 VCAP/VDDCORE (power), 8 PGED2/RP10/CN16/PMD2/RB10 (io), 9 PGEC2/RP11/CN15/PMD1/RB11 (io), 10 AN12/RP12/CN14/PMD0/RB12 (io), 11 AN11/C1INC/RP13/PMRD/REFO/CN13/RB13 (io), 12 TMS/PMA10/RA10 (io), 13 TCK/PMA7/RA7 (io), 14 AN10/C3INB/CVREF/RTCC/RP14/CN12/PMWR/RB14 (io), 15 AN9/C3INA/RP15/CN11/RB15 (io), 16 AVSS (power), 17 AVDD (power), 18 ~{MCLR} (in), 19 AN0/C3INC/VREF+/CN2/CTED1/RA0 (io), 20 AN1/C3IND/VREF-/CN3/CTED2/RA1 (io), 21 PGED1/AN2/C2INB/RP0/CN4/RB0 (io), 22 PGEC1/AN3/C2INA/RP1/CN5/RB1 (io), 23 AN4/C1INB/RP2/SDA2/CN6/RB2 (io), 24 AN5/C1INA/RP3/SCL2/CN7/RB3 (io), 25 AN6/RP16/CN8/RC0 (io), 26 AN7/RP17/CN9/RC1 (io), 27 AN8/RP18/PMA2/CN10/RC2 (io), 28 VDD (power), 29 VSS (power), 30 OSCI/CLKI/C1IND/CN30/RA2 (io), 31 OSCO/CLKO/CN29/RA3 (io), 32 TDO/PMA8/RA8 (io), 33 SOSCI/C1IND/RP4/CN1/RB4 (io), 34 SOSCO/SCLKI/T1CK/C2INC/CN0/RA4 (io), 35 TDI/PMA9/RA9 (io), 36 RP19/CN28/PMBE/RC3 (io), 37 RP20/CN25/PMA4/RC4 (io), 38 RP21/CN26/PMA3/RC5 (io), 39 VSS (power), 40 VDD (power), 41 PGED3/RP5/ASDA1/CN27/PMD7/RB5 (io), 42 PGEC3/RP6/ASCL1/CN24/PMD6/RB6 (io), 43 RP7/INT0/CN23/PMD5/RB7 (io), 44 RP8/SCL1/CN22/PMD4/RB8 (io)

## PIC24FJ64GA104T-I/ML
designator U?
General purpose 16-bit Flash Microcontroller with nanoWatt XLP, 64KB Flash, 8KB SRAM, 44-Pin QFN, Industrial Temperature, Tape and Reel; Published: 2-Dec-2009; LatestRevisionDate: 07-Oct-2010; LatestRevisionNote: Updated to datasheet revision C, Aug-2010. Supplier links updated.; DatasheetVersion: revC, Aug-2010; PackageVersion: revBB, Aug-2009; PackageReference: QFN-ML44; Publisher: Altium Limited; PackageDescription: 44-Lead Plastic Quad Flat, No Lead Package (ML) - 8x8 mm Body [QFN]; Supplier 1: Digi-Key; Supplier Part Number 1: PIC24FJ64GA104T-I/ML-ND; Code_JEDEC: MO-220; Code_IPC: QFN65P800X800-44V2; ComponentLink1Description: Datasheet; ComponentLink1URL: http://ww1.microchip.com/downloads/en/DeviceDoc/39951C.pdf; ComponentLink2Description: Packaging Specification; ComponentLink2URL: http://www.microchip.com/stellent/groups/techpub_sg/documents/packagingspec/en012702.pdf; ComponentLink3Description: Microchip.com Home; ComponentLink3URL: http://www.microchip.com/
footprint QFN-ML44_N (QFN, 44-Leads, Body 8x8 mm, Pitch 0.65mm, IPC Medium Density)
footprint QFN-ML44_L (QFN, 44-Leads, Body 8x8 mm, Pitch 0.65mm, IPC High Density)
footprint QFN-ML44_M (QFN, 44-Leads, Body 8x8 mm, Pitch 0.65mm, IPC Low Density)
pins: 1 RP9/SDA1/CN21/PMD3/RB9 (io), 2 RP22/CN18/PMA1/RC6 (io), 3 RP23/CN17/PMA0/RC7 (io), 4 RP24/CN20/PMA5/RC8 (io), 5 RP25/CN19/PMA6/RC9 (io), 6 DISVREG (in), 7 VCAP/VDDCORE (power), 8 PGED2/RP10/CN16/PMD2/RB10 (io), 9 PGEC2/RP11/CN15/PMD1/RB11 (io), 10 AN12/RP12/CN14/PMD0/RB12 (io), 11 AN11/C1INC/RP13/PMRD/REFO/CN13/RB13 (io), 12 TMS/PMA10/RA10 (io), 13 TCK/PMA7/RA7 (io), 14 AN10/C3INB/CVREF/RTCC/RP14/CN12/PMWR/RB14 (io), 15 AN9/C3INA/RP15/CN11/RB15 (io), 16 AVSS (power), 17 AVDD (power), 18 ~{MCLR} (in), 19 AN0/C3INC/VREF+/CN2/CTED1/RA0 (io), 20 AN1/C3IND/VREF-/CN3/CTED2/RA1 (io), 21 PGED1/AN2/C2INB/RP0/CN4/RB0 (io), 22 PGEC1/AN3/C2INA/RP1/CN5/RB1 (io), 23 AN4/C1INB/RP2/SDA2/CN6/RB2 (io), 24 AN5/C1INA/RP3/SCL2/CN7/RB3 (io), 25 AN6/RP16/CN8/RC0 (io), 26 AN7/RP17/CN9/RC1 (io), 27 AN8/RP18/PMA2/CN10/RC2 (io), 28 VDD (power), 29 VSS (power), 30 OSCI/CLKI/C1IND/CN30/RA2 (io), 31 OSCO/CLKO/CN29/RA3 (io), 32 TDO/PMA8/RA8 (io), 33 SOSCI/C1IND/RP4/CN1/RB4 (io), 34 SOSCO/SCLKI/T1CK/C2INC/CN0/RA4 (io), 35 TDI/PMA9/RA9 (io), 36 RP19/CN28/PMBE/RC3 (io), 37 RP20/CN25/PMA4/RC4 (io), 38 RP21/CN26/PMA3/RC5 (io), 39 VSS (power), 40 VDD (power), 41 PGED3/RP5/ASDA1/CN27/PMD7/RB5 (io), 42 PGEC3/RP6/ASCL1/CN24/PMD6/RB6 (io), 43 RP7/INT0/CN23/PMD5/RB7 (io), 44 RP8/SCL1/CN22/PMD4/RB8 (io), 45 VSS (power)

## PIC24FJ64GA104T-I/PT
designator U?
General purpose 16-bit Flash Microcontroller with nanoWatt XLP, 64KB Flash, 8KB SRAM, 44-Pin TQFP, Industrial Temperature, Tape and Reel; Published: 2-Dec-2009; LatestRevisionDate: 07-Oct-2010; LatestRevisionNote: Updated to datasheet revision C, Aug-2010. Supplier links updated. Sch. layout updated.; DatasheetVersion: revC, Aug-2010; PackageVersion: revBB, Aug-2009; PackageReference: TQFP-PT44; Publisher: Altium Limited; PackageDescription: 44-Lead Plastic Thin Quad Flatpack (PT) - 10x10x1mm Body, 2.00mm [TQFP]; Supplier 1: Digi-Key; Supplier Part Number 1: PIC24FJ64GA104T-I/PT-ND; Code_JEDEC: MS-026; ComponentLink1Description: Datasheet; ComponentLink1URL: http://ww1.microchip.com/downloads/en/DeviceDoc/39951C.pdf; ComponentLink2Description: Packaging Specification; ComponentLink2URL: http://www.microchip.com/stellent/groups/techpub_sg/documents/packagingspec/en012702.pdf; ComponentLink3Description: Microchip.com Home; ComponentLink3URL: http://www.microchip.com/
footprint TQFP-PT44_N (Thin QFP, 44-Leads, Body 10x10mm, Pitch 0.8mm, IPC Medium Density)
footprint TQFP-PT44_L (Thin QFP, 44-Leads, Body 10x10mm, Pitch 0.8mm, IPC High Density)
footprint TQFP-PT44_M (Thin QFP, 44-Leads, Body 10x10mm, Pitch 0.8mm, IPC Low Density)
pins: 1 RP9/SDA1/CN21/PMD3/RB9 (io), 2 RP22/CN18/PMA1/RC6 (io), 3 RP23/CN17/PMA0/RC7 (io), 4 RP24/CN20/PMA5/RC8 (io), 5 RP25/CN19/PMA6/RC9 (io), 6 DISVREG (in), 7 VCAP/VDDCORE (power), 8 PGED2/RP10/CN16/PMD2/RB10 (io), 9 PGEC2/RP11/CN15/PMD1/RB11 (io), 10 AN12/RP12/CN14/PMD0/RB12 (io), 11 AN11/C1INC/RP13/PMRD/REFO/CN13/RB13 (io), 12 TMS/PMA10/RA10 (io), 13 TCK/PMA7/RA7 (io), 14 AN10/C3INB/CVREF/RTCC/RP14/CN12/PMWR/RB14 (io), 15 AN9/C3INA/RP15/CN11/RB15 (io), 16 AVSS (power), 17 AVDD (power), 18 ~{MCLR} (in), 19 AN0/C3INC/VREF+/CN2/CTED1/RA0 (io), 20 AN1/C3IND/VREF-/CN3/CTED2/RA1 (io), 21 PGED1/AN2/C2INB/RP0/CN4/RB0 (io), 22 PGEC1/AN3/C2INA/RP1/CN5/RB1 (io), 23 AN4/C1INB/RP2/SDA2/CN6/RB2 (io), 24 AN5/C1INA/RP3/SCL2/CN7/RB3 (io), 25 AN6/RP16/CN8/RC0 (io), 26 AN7/RP17/CN9/RC1 (io), 27 AN8/RP18/PMA2/CN10/RC2 (io), 28 VDD (power), 29 VSS (power), 30 OSCI/CLKI/C1IND/CN30/RA2 (io), 31 OSCO/CLKO/CN29/RA3 (io), 32 TDO/PMA8/RA8 (io), 33 SOSCI/C1IND/RP4/CN1/RB4 (io), 34 SOSCO/SCLKI/T1CK/C2INC/CN0/RA4 (io), 35 TDI/PMA9/RA9 (io), 36 RP19/CN28/PMBE/RC3 (io), 37 RP20/CN25/PMA4/RC4 (io), 38 RP21/CN26/PMA3/RC5 (io), 39 VSS (power), 40 VDD (power), 41 PGED3/RP5/ASDA1/CN27/PMD7/RB5 (io), 42 PGEC3/RP6/ASCL1/CN24/PMD6/RB6 (io), 43 RP7/INT0/CN23/PMD5/RB7 (io), 44 RP8/SCL1/CN22/PMD4/RB8 (io)

## PIC24FJ64GB002-I/ML
designator U?
16-Bit Flash Microcontroller with USB On-The-Go and nanoWatt XLP, 64KB Flash, 8KB SRAM, 28-Pin QFN, Industrial Temperature; Published: 2-Dec-2009; LatestRevisionDate: 07-Oct-2010; LatestRevisionNote: Updated to datasheet revision D, Aug-2010. Supplier links updated.; DatasheetVersion: revD, Aug-2010; PackageVersion: revBB, Aug-2009; PackageReference: QFN-ML28; Publisher: Altium Limited; PackageDescription: 28-Lead Plastic Quad Flat, No Lead Package (ML) - 6x6 mm Body [QFN] with 0.55 mm Contact Length; Supplier 1: Digi-Key; Supplier Part Number 1: PIC24FJ64GB002-I/ML-ND; Supplier 2: Farnell; Supplier Part Number 2: 1778483; Code_JEDEC: MO-220; Code_IPC: QFN65P600X600-28V; ComponentLink1Description: Datasheet; ComponentLink1URL: http://ww1.microchip.com/downloads/en/DeviceDoc/39940d.pdf; ComponentLink2Description: Packaging Specification; ComponentLink2URL: http://www.microchip.com/stellent/groups/techpub_sg/documents/packagingspec/en012702.pdf; ComponentLink3Description: Microchip.com Home; ComponentLink3URL: http://www.microchip.com/
footprint QFN-ML28_N (QFN, 28-Leads, Body 6x6 mm, Pitch 0.65mm, IPC Medium Density)
footprint QFN-ML28_L (QFN, 28-Leads, Body 6x6 mm, Pitch 0.65mm, IPC High Density)
footprint QFN-ML28_M (QFN, 28-Leads, Body 6x6 mm, Pitch 0.65mm, IPC Low Density)
pins: 1 PGED1/AN2/C2INB/DPH/RP0/PMD0/CN4/RB0 (io), 2 PGEC1/AN3/C2INA/DMH/RP1/PMD1/CN5/RB1 (io), 3 AN4/C1INB/DPLN/SDA2/RP2/PMD2/CN6/RB2 (io), 4 AN5/C1INA/DMLN/RTCC/SCL2/RP3/PMWR/CN7/RB3 (io), 5 VSS (power), 6 OSCI/CLKI/C1IND/PMCS1/CN30/RA2 (io), 7 OSCO/CLKO/PMA0/CN29/RA3 (io), 8 SOSCI/C2IND/RP4/PMBE/CN1/RB4 (io), 9 SOSCO/SCLKI/T1CK/C2INC/PMA1/CN0/RA4 (io), 10 VDD (power), 11 TMS/USBID/CN27/RB5 (io), 12 VBUS (power), 13 TDI/RP7/PMD5/INT0/CN23/RB7 (io), 14 TCK/USBOEN/SCL1/RP8/PMD4/CN22/RB8 (io), 15 TDO/SDA1/RP9/PMD3/RCV/CN21/RB9 (io), 16 DISVREG (in), 17 VCAP/VDDCORE (power), 18 PGED2/D+/VPIO/RP10/CN16/RB10 (io), 19 PGEC2/D-/VMIO/RP11/CN15/RB11 (io), 20 VUSB (power), 21 AN11/C1INC/RP13/PMRD/REFO/SESSEND/CN13/RB13 (io), 22 AN10/C3INB/CVREF/VCPCON/VBUSON/RP14/CN12/RB14 (io), 23 AN9/C3INA/VBUSCHG/RP15/VBUSST/CN11/RB15 (io), 24 VSS (power), 25 VDD (power), 26 ~{MCLR} (in), 27 PGED3/AN0/C3INC/VREF+/ASDA1/RP5/PMD7/CTED1/VBUSVLD/VCMPST1/CN2/RA0 (io), 28 PGEC3/AN1/C3IND/VREF-/ASCL1/RP6/PMD6/CTED2/SESSVLD/VCMPST2/CN3/RA1 (io), 29 VSS (power)

## PIC24FJ64GB002-I/SO
designator U?
16-Bit Flash Microcontroller with USB On-The-Go and nanoWatt XLP, 64KB Flash, 8KB SRAM, 28-Pin SOIC, Industrial Temperature; Published: 2-Dec-2009; LatestRevisionDate: 07-Oct-2010; LatestRevisionNote: Updated to datasheet revision D, Aug-2010. Supplier links updated. Sch. pinout corrected. Sch. layout revised.; DatasheetVersion: revD, Aug-2010; PackageVersion: revBB, Aug-2009; PackageReference: SOIC-SO28; Publisher: Altium Limited; PackageDescription: 28-Lead Plastic Small Outline (SO) - Wide 7.50mm Body [SOIC]; Supplier 1: Digi-Key; Supplier Part Number 1: PIC24FJ64GB002-I/SO-ND; Supplier 2: Farnell; Supplier Part Number 2: 1778484; Code_JEDEC: MS-013; ComponentLink1Description: Datasheet; ComponentLink1URL: http://ww1.microchip.com/downloads/en/DeviceDoc/39940d.pdf; ComponentLink2Description: Packaging Specification; ComponentLink2URL: http://www.microchip.com/stellent/groups/techpub_sg/documents/packagingspec/en012702.pdf; ComponentLink3Description: Microchip.com Home; ComponentLink3URL: http://www.microchip.com/
footprint SOIC-SO28_N (SOIC, 28-Leads, Body 17.9x7.5mm, Pitch 1.27mm, IPC Medium Density)
footprint SOIC-SO28_L (SOIC, 28-Leads, Body 17.9x7.5mm, Pitch 1.27mm, IPC High Density)
footprint SOIC-SO28_M (SOIC, 28-Leads, Body 17.9x7.5mm, Pitch 1.27mm, IPC Low Density)
pins: 1 ~{MCLR} (in), 2 PGED3/AN0/C3INC/VREF+/ASDA1/RP5/PMD7/CTED1/VBUSVLD/VCMPST1/CN2/RA0 (io), 3 PGEC3/AN1/C3IND/VREF-/ASCL1/RP6/PMD6/CTED2/SESSVLD/VCMPST2/CN3/RA1 (io), 4 PGED1/AN2/C2INB/DPH/RP0/PMD0/CN4/RB0 (io), 5 PGEC1/AN3/C2INA/DMH/RP1/PMD1/CN5/RB1 (io), 6 AN4/C1INB/DPLN/SDA2/RP2/PMD2/CN6/RB2 (io), 7 AN5/C1INA/DMLN/RTCC/SCL2/RP3/PMWR/CN7/RB3 (io), 8 VSS (power), 9 OSCI/CLKI/C1IND/PMCS1/CN30/RA2 (io), 10 OSCO/CLKO/PMA0/CN29/RA3 (io), 11 SOSCI/C2IND/RP4/PMBE/CN1/RB4 (io), 12 SOSCO/SCLKI/T1CK/C2INC/PMA1/CN0/RA4 (io), 13 VDD (power), 14 TMS/USBID/CN27/RB5 (io), 15 VBUS (power), 16 TDI/RP7/PMD5/INT0/CN23/RB7 (io), 17 TCK/USBOEN/SCL1/RP8/PMD4/CN22/RB8 (io), 18 TDO/SDA1/RP9/PMD3/RCV/CN21/RB9 (io), 19 DISVREG (in), 20 VCAP/VDDCORE (power), 21 PGED2/D+/VPIO/RP10/CN16/RB10 (io), 22 PGEC2/D-/VMIO/RP11/CN15/RB11 (io), 23 VUSB (power), 24 AN11/C1INC/RP13/PMRD/REFO/SESSEND/CN13/RB13 (io), 25 AN10/C3INB/CVREF/VCPCON/VBUSON/RP14/CN12/RB14 (io), 26 AN9/C3INA/VBUSCHG/RP15/VBUSST/CN11/RB15 (io), 27 VSS (power), 28 VDD (power)

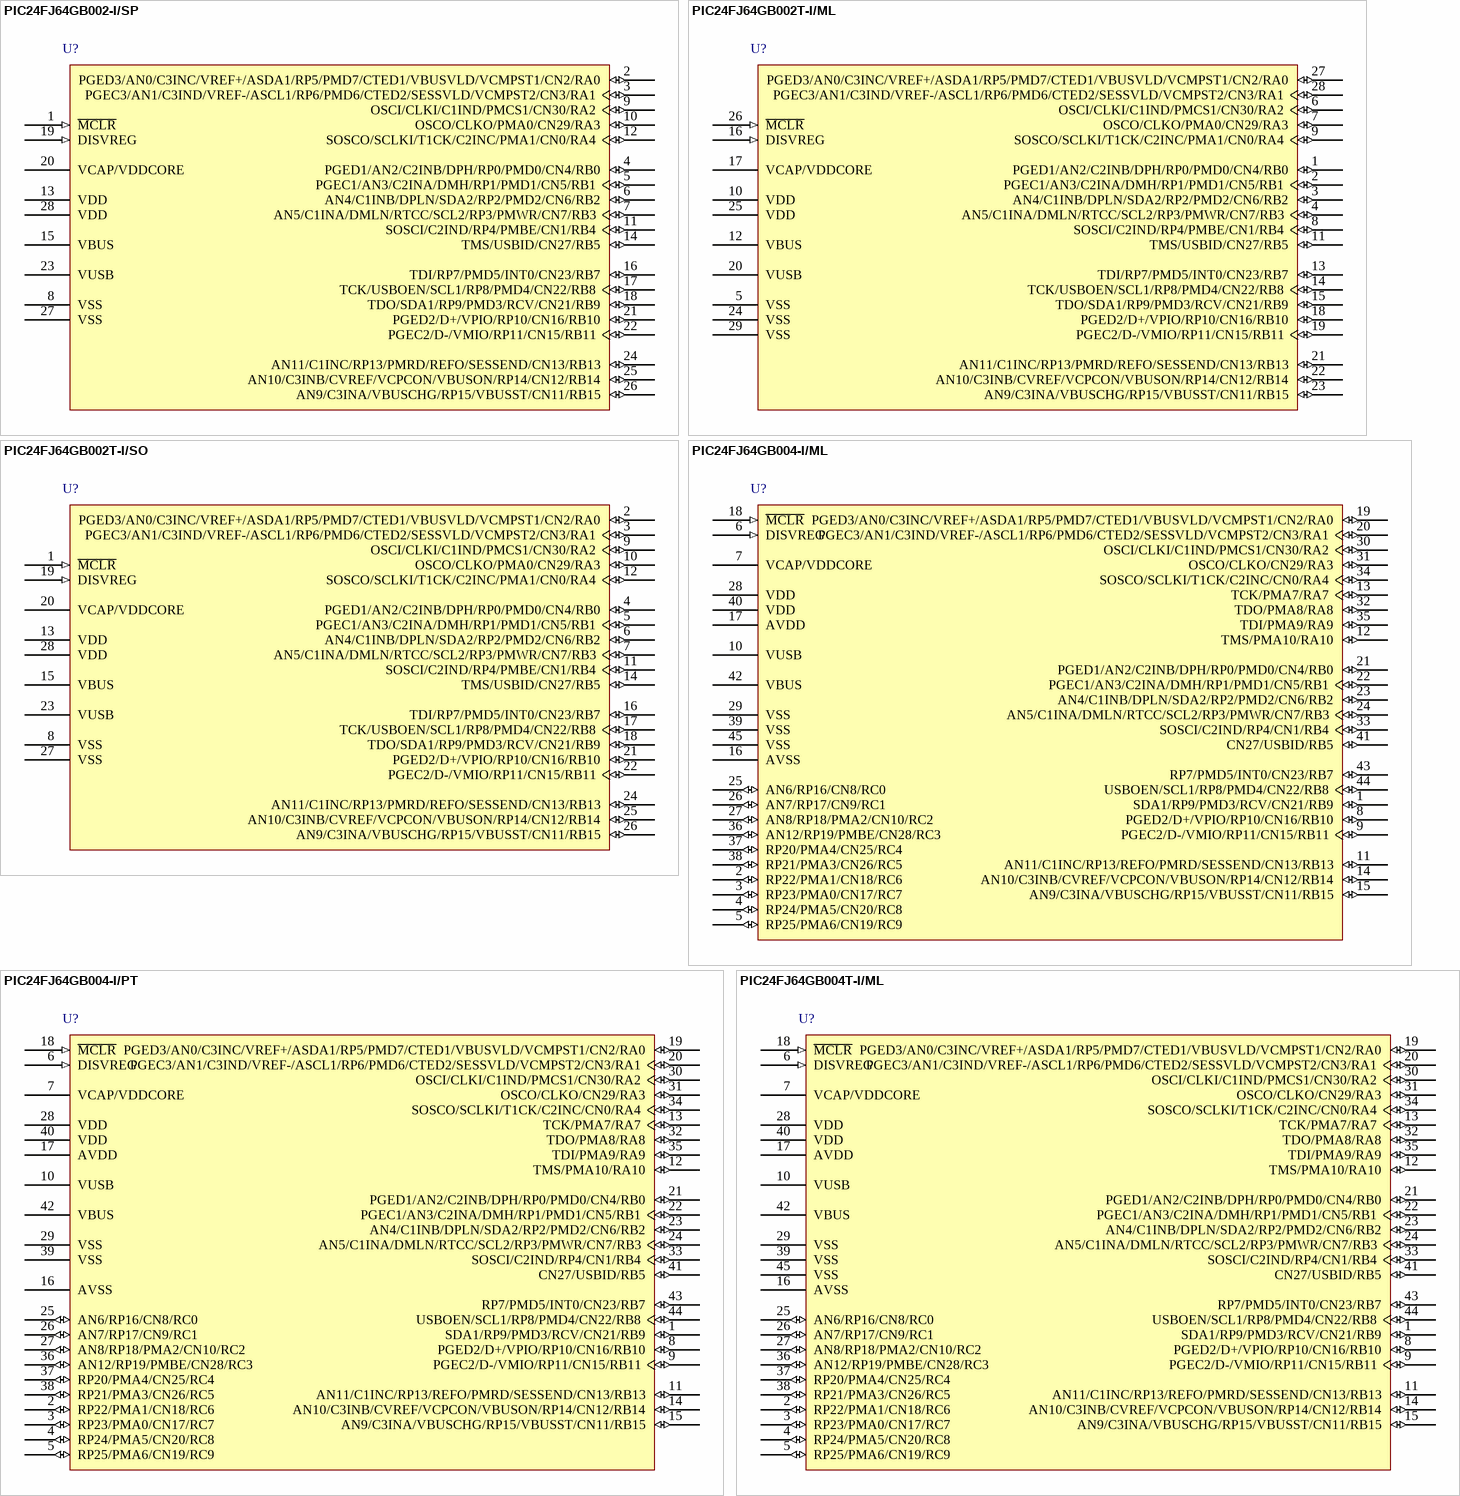
[diagram p22: symbols PIC24FJ64GB002-I/SP to PIC24FJ64GB004T-I/ML]

## PIC24FJ64GB002-I/SP
designator U?
16-Bit Flash Microcontroller with USB On-The-Go and nanoWatt XLP, 64KB Flash, 8KB SRAM, 28-Pin SPDIP, Industrial Temperature; Published: 2-Dec-2009; LatestRevisionDate: 07-Oct-2010; LatestRevisionNote: Updated to datasheet revision D, Aug-2010. Supplier links updated. Sch. pinout corrected. Sch. layout revised.; DatasheetVersion: revD, Aug-2010; PackageVersion: revBB, Aug-2009; PackageReference: SPDIP300-SP28; Publisher: Altium Limited; PackageDescription: 28-Lead Skinny Plastic Dual In-Line (SP) - 300 mil Body [SPDIP]; Supplier 1: Digi-Key; Supplier Part Number 1: PIC24FJ64GB002-I/SP-ND; Supplier 2: Farnell; Supplier Part Number 2: 1778485; ComponentLink1Description: Datasheet; ComponentLink1URL: http://ww1.microchip.com/downloads/en/DeviceDoc/39940d.pdf; ComponentLink2Description: Packaging Specification; ComponentLink2URL: http://www.microchip.com/stellent/groups/techpub_sg/documents/packagingspec/en012702.pdf; ComponentLink3Description: Microchip.com Home; ComponentLink3URL: http://www.microchip.com/
footprint SPDIP300-SP28 (DIP, 28-Leads, Row Spacing 7.62mm, Pitch 2.54mm, Body 34.9x6.8mm)
pins: 1 ~{MCLR} (in), 2 PGED3/AN0/C3INC/VREF+/ASDA1/RP5/PMD7/CTED1/VBUSVLD/VCMPST1/CN2/RA0 (io), 3 PGEC3/AN1/C3IND/VREF-/ASCL1/RP6/PMD6/CTED2/SESSVLD/VCMPST2/CN3/RA1 (io), 4 PGED1/AN2/C2INB/DPH/RP0/PMD0/CN4/RB0 (io), 5 PGEC1/AN3/C2INA/DMH/RP1/PMD1/CN5/RB1 (io), 6 AN4/C1INB/DPLN/SDA2/RP2/PMD2/CN6/RB2 (io), 7 AN5/C1INA/DMLN/RTCC/SCL2/RP3/PMWR/CN7/RB3 (io), 8 VSS (power), 9 OSCI/CLKI/C1IND/PMCS1/CN30/RA2 (io), 10 OSCO/CLKO/PMA0/CN29/RA3 (io), 11 SOSCI/C2IND/RP4/PMBE/CN1/RB4 (io), 12 SOSCO/SCLKI/T1CK/C2INC/PMA1/CN0/RA4 (io), 13 VDD (power), 14 TMS/USBID/CN27/RB5 (io), 15 VBUS (power), 16 TDI/RP7/PMD5/INT0/CN23/RB7 (io), 17 TCK/USBOEN/SCL1/RP8/PMD4/CN22/RB8 (io), 18 TDO/SDA1/RP9/PMD3/RCV/CN21/RB9 (io), 19 DISVREG (in), 20 VCAP/VDDCORE (power), 21 PGED2/D+/VPIO/RP10/CN16/RB10 (io), 22 PGEC2/D-/VMIO/RP11/CN15/RB11 (io), 23 VUSB (power), 24 AN11/C1INC/RP13/PMRD/REFO/SESSEND/CN13/RB13 (io), 25 AN10/C3INB/CVREF/VCPCON/VBUSON/RP14/CN12/RB14 (io), 26 AN9/C3INA/VBUSCHG/RP15/VBUSST/CN11/RB15 (io), 27 VSS (power), 28 VDD (power)

## PIC24FJ64GB002T-I/ML
designator U?
16-Bit Flash Microcontroller with USB On-The-Go and nanoWatt XLP, 64KB Flash, 8KB SRAM, 28-Pin QFN, Industrial Temperature, Tape and Reel; Published: 2-Dec-2009; LatestRevisionDate: 07-Oct-2010; LatestRevisionNote: Updated to datasheet revision D, Aug-2010. Supplier links updated.; DatasheetVersion: revD, Aug-2010; PackageVersion: revBB, Aug-2009; PackageReference: QFN-ML28; Publisher: Altium Limited; PackageDescription: 28-Lead Plastic Quad Flat, No Lead Package (ML) - 6x6 mm Body [QFN] with 0.55 mm Contact Length; Supplier 1: Digi-Key; Supplier Part Number 1: PIC24FJ64GB002T-I/ML-ND; Code_JEDEC: MO-220; Code_IPC: QFN65P600X600-28V; ComponentLink1Description: Datasheet; ComponentLink1URL: http://ww1.microchip.com/downloads/en/DeviceDoc/39940d.pdf; ComponentLink2Description: Packaging Specification; ComponentLink2URL: http://www.microchip.com/stellent/groups/techpub_sg/documents/packagingspec/en012702.pdf; ComponentLink3Description: Microchip.com Home; ComponentLink3URL: http://www.microchip.com/
footprint QFN-ML28_N (QFN, 28-Leads, Body 6x6 mm, Pitch 0.65mm, IPC Medium Density)
footprint QFN-ML28_L (QFN, 28-Leads, Body 6x6 mm, Pitch 0.65mm, IPC High Density)
footprint QFN-ML28_M (QFN, 28-Leads, Body 6x6 mm, Pitch 0.65mm, IPC Low Density)
pins: 1 PGED1/AN2/C2INB/DPH/RP0/PMD0/CN4/RB0 (io), 2 PGEC1/AN3/C2INA/DMH/RP1/PMD1/CN5/RB1 (io), 3 AN4/C1INB/DPLN/SDA2/RP2/PMD2/CN6/RB2 (io), 4 AN5/C1INA/DMLN/RTCC/SCL2/RP3/PMWR/CN7/RB3 (io), 5 VSS (power), 6 OSCI/CLKI/C1IND/PMCS1/CN30/RA2 (io), 7 OSCO/CLKO/PMA0/CN29/RA3 (io), 8 SOSCI/C2IND/RP4/PMBE/CN1/RB4 (io), 9 SOSCO/SCLKI/T1CK/C2INC/PMA1/CN0/RA4 (io), 10 VDD (power), 11 TMS/USBID/CN27/RB5 (io), 12 VBUS (power), 13 TDI/RP7/PMD5/INT0/CN23/RB7 (io), 14 TCK/USBOEN/SCL1/RP8/PMD4/CN22/RB8 (io), 15 TDO/SDA1/RP9/PMD3/RCV/CN21/RB9 (io), 16 DISVREG (in), 17 VCAP/VDDCORE (power), 18 PGED2/D+/VPIO/RP10/CN16/RB10 (io), 19 PGEC2/D-/VMIO/RP11/CN15/RB11 (io), 20 VUSB (power), 21 AN11/C1INC/RP13/PMRD/REFO/SESSEND/CN13/RB13 (io), 22 AN10/C3INB/CVREF/VCPCON/VBUSON/RP14/CN12/RB14 (io), 23 AN9/C3INA/VBUSCHG/RP15/VBUSST/CN11/RB15 (io), 24 VSS (power), 25 VDD (power), 26 ~{MCLR} (in), 27 PGED3/AN0/C3INC/VREF+/ASDA1/RP5/PMD7/CTED1/VBUSVLD/VCMPST1/CN2/RA0 (io), 28 PGEC3/AN1/C3IND/VREF-/ASCL1/RP6/PMD6/CTED2/SESSVLD/VCMPST2/CN3/RA1 (io), 29 VSS (power)

## PIC24FJ64GB002T-I/SO
designator U?
16-Bit Flash Microcontroller with USB On-The-Go and nanoWatt XLP, 64KB Flash, 8KB SRAM, 28-Pin SOIC, Industrial Temperature, Tape and Reel; Published: 2-Dec-2009; LatestRevisionDate: 07-Oct-2010; LatestRevisionNote: Updated to datasheet revision D, Aug-2010. Supplier links updated. Sch. pinout corrected. Sch. layout revised.; DatasheetVersion: revD, Aug-2010; PackageVersion: revBB, Aug-2009; PackageReference: SOIC-SO28; Publisher: Altium Limited; PackageDescription: 28-Lead Plastic Small Outline (SO) - Wide 7.50mm Body [SOIC]; Supplier 1: Digi-Key; Supplier Part Number 1: PIC24FJ64GB002T-I/SO-ND; Code_JEDEC: MS-013; ComponentLink1Description: Datasheet; ComponentLink1URL: http://ww1.microchip.com/downloads/en/DeviceDoc/39940d.pdf; ComponentLink2Description: Packaging Specification; ComponentLink2URL: http://www.microchip.com/stellent/groups/techpub_sg/documents/packagingspec/en012702.pdf; ComponentLink3Description: Microchip.com Home; ComponentLink3URL: http://www.microchip.com/
footprint SOIC-SO28_N (SOIC, 28-Leads, Body 17.9x7.5mm, Pitch 1.27mm, IPC Medium Density)
footprint SOIC-SO28_L (SOIC, 28-Leads, Body 17.9x7.5mm, Pitch 1.27mm, IPC High Density)
footprint SOIC-SO28_M (SOIC, 28-Leads, Body 17.9x7.5mm, Pitch 1.27mm, IPC Low Density)
pins: 1 ~{MCLR} (in), 2 PGED3/AN0/C3INC/VREF+/ASDA1/RP5/PMD7/CTED1/VBUSVLD/VCMPST1/CN2/RA0 (io), 3 PGEC3/AN1/C3IND/VREF-/ASCL1/RP6/PMD6/CTED2/SESSVLD/VCMPST2/CN3/RA1 (io), 4 PGED1/AN2/C2INB/DPH/RP0/PMD0/CN4/RB0 (io), 5 PGEC1/AN3/C2INA/DMH/RP1/PMD1/CN5/RB1 (io), 6 AN4/C1INB/DPLN/SDA2/RP2/PMD2/CN6/RB2 (io), 7 AN5/C1INA/DMLN/RTCC/SCL2/RP3/PMWR/CN7/RB3 (io), 8 VSS (power), 9 OSCI/CLKI/C1IND/PMCS1/CN30/RA2 (io), 10 OSCO/CLKO/PMA0/CN29/RA3 (io), 11 SOSCI/C2IND/RP4/PMBE/CN1/RB4 (io), 12 SOSCO/SCLKI/T1CK/C2INC/PMA1/CN0/RA4 (io), 13 VDD (power), 14 TMS/USBID/CN27/RB5 (io), 15 VBUS (power), 16 TDI/RP7/PMD5/INT0/CN23/RB7 (io), 17 TCK/USBOEN/SCL1/RP8/PMD4/CN22/RB8 (io), 18 TDO/SDA1/RP9/PMD3/RCV/CN21/RB9 (io), 19 DISVREG (in), 20 VCAP/VDDCORE (power), 21 PGED2/D+/VPIO/RP10/CN16/RB10 (io), 22 PGEC2/D-/VMIO/RP11/CN15/RB11 (io), 23 VUSB (power), 24 AN11/C1INC/RP13/PMRD/REFO/SESSEND/CN13/RB13 (io), 25 AN10/C3INB/CVREF/VCPCON/VBUSON/RP14/CN12/RB14 (io), 26 AN9/C3INA/VBUSCHG/RP15/VBUSST/CN11/RB15 (io), 27 VSS (power), 28 VDD (power)

## PIC24FJ64GB004-I/ML
designator U?
16-Bit Flash Microcontroller with USB On-The-Go and nanoWatt XLP, 64KB Flash, 8KB SRAM, 44-Pin QFN, Industrial Temperature; Published: 2-Dec-2009; LatestRevisionDate: 07-Oct-2010; LatestRevisionNote: Updated to datasheet revision D, Aug-2010. Supplier links updated. Sch. layout updated.; DatasheetVersion: revD, Aug-2010; PackageVersion: revBB, Aug-2009; PackageReference: QFN-ML44; Publisher: Altium Limited; PackageDescription: 44-Lead Plastic Quad Flat, No Lead Package (ML) - 8x8 mm Body [QFN]; Supplier 1: Digi-Key; Supplier Part Number 1: PIC24FJ64GB004-I/ML-ND; Supplier 2: Farnell; Supplier Part Number 2: 1778486; Code_JEDEC: MO-220; Code_IPC: QFN65P800X800-44V2; ComponentLink1Description: Datasheet; ComponentLink1URL: http://ww1.microchip.com/downloads/en/DeviceDoc/39940d.pdf; ComponentLink2Description: Packaging Specification; ComponentLink2URL: http://www.microchip.com/stellent/groups/techpub_sg/documents/packagingspec/en012702.pdf; ComponentLink3Description: Microchip.com Home; ComponentLink3URL: http://www.microchip.com/
footprint QFN-ML44_N (QFN, 44-Leads, Body 8x8 mm, Pitch 0.65mm, IPC Medium Density)
footprint QFN-ML44_L (QFN, 44-Leads, Body 8x8 mm, Pitch 0.65mm, IPC High Density)
footprint QFN-ML44_M (QFN, 44-Leads, Body 8x8 mm, Pitch 0.65mm, IPC Low Density)
pins: 1 SDA1/RP9/PMD3/RCV/CN21/RB9 (io), 2 RP22/PMA1/CN18/RC6 (io), 3 RP23/PMA0/CN17/RC7 (io), 4 RP24/PMA5/CN20/RC8 (io), 5 RP25/PMA6/CN19/RC9 (io), 6 DISVREG (in), 7 VCAP/VDDCORE (power), 8 PGED2/D+/VPIO/RP10/CN16/RB10 (io), 9 PGEC2/D-/VMIO/RP11/CN15/RB11 (io), 10 VUSB (power), 11 AN11/C1INC/RP13/REFO/PMRD/SESSEND/CN13/RB13 (io), 12 TMS/PMA10/RA10 (io), 13 TCK/PMA7/RA7 (io), 14 AN10/C3INB/CVREF/VCPCON/VBUSON/RP14/CN12/RB14 (io), 15 AN9/C3INA/VBUSCHG/RP15/VBUSST/CN11/RB15 (io), 16 AVSS (power), 17 AVDD (power), 18 ~{MCLR} (in), 19 PGED3/AN0/C3INC/VREF+/ASDA1/RP5/PMD7/CTED1/VBUSVLD/VCMPST1/CN2/RA0 (io), 20 PGEC3/AN1/C3IND/VREF-/ASCL1/RP6/PMD6/CTED2/SESSVLD/VCMPST2/CN3/RA1 (io), 21 PGED1/AN2/C2INB/DPH/RP0/PMD0/CN4/RB0 (io), 22 PGEC1/AN3/C2INA/DMH/RP1/PMD1/CN5/RB1 (io), 23 AN4/C1INB/DPLN/SDA2/RP2/PMD2/CN6/RB2 (io), 24 AN5/C1INA/DMLN/RTCC/SCL2/RP3/PMWR/CN7/RB3 (io), 25 AN6/RP16/CN8/RC0 (io), 26 AN7/RP17/CN9/RC1 (io), 27 AN8/RP18/PMA2/CN10/RC2 (io), 28 VDD (power), 29 VSS (power), 30 OSCI/CLKI/C1IND/PMCS1/CN30/RA2 (io), 31 OSCO/CLKO/CN29/RA3 (io), 32 TDO/PMA8/RA8 (io), 33 SOSCI/C2IND/RP4/CN1/RB4 (io), 34 SOSCO/SCLKI/T1CK/C2INC/CN0/RA4 (io), 35 TDI/PMA9/RA9 (io), 36 AN12/RP19/PMBE/CN28/RC3 (io), 37 RP20/PMA4/CN25/RC4 (io), 38 RP21/PMA3/CN26/RC5 (io), 39 VSS (power), 40 VDD (power), 41 CN27/USBID/RB5 (io), 42 VBUS (power), 43 RP7/PMD5/INT0/CN23/RB7 (io), 44 USBOEN/SCL1/RP8/PMD4/CN22/RB8 (io), 45 VSS (power)